# EAGLE library part JUMPER-2X7 (library aq_pcb_v2)
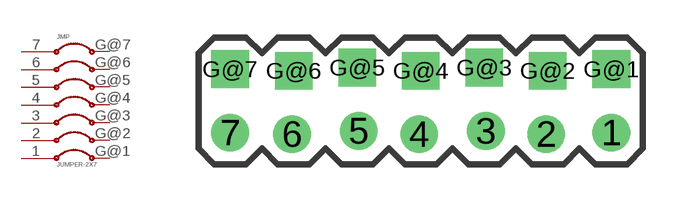
[diagram p9: symbol with the pads of JUMPER-2X7; footprint JUMPER-2X7]

Designator prefix JMP

## JUMPER-2X7  [JUMPER-2X7]
1  1  out
2  2  out
3  3  out
4  4  out
5  5  out
6  6  out
7  7  out
G@1  G  in
G@2  G  in
G@3  G  in
G@4  G  in
G@5  G  in
G@6  G  in
G@7  G  in

## Footprint JUMPER-2X7 (pad centres in mm)
drill 1 round: 1 7.62,-1.27; 2 5.016,-1.333; 3 2.603,-1.206; 4 -0.064,-1.333; 5 -2.477,-1.206; 6 -5.144,-1.333; 7 -7.62,-1.27
drill 1 square: G@1 7.62,1.27; G@2 5.08,1.206; G@3 2.54,1.333; G@4 0,1.206; G@5 -2.54,1.333; G@6 -5.08,1.206; G@7 -7.62,1.27